# EAGLE library part ST2378E_FC (library ST2378E)
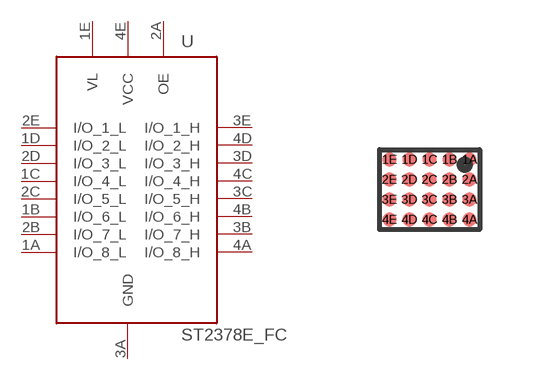
[diagram p0: symbol with the pads of FLIP-CHIP_20; footprint FLIP-CHIP_20]

Designator prefix -

## ST2378E_FC  [FLIP-CHIP_20]
1A  I/O_8_L
1B  I/O_6_L
1C  I/O_4_L
1D  I/O_2_L
1E  VL
2A  OE
2B  I/O_7_L
2C  I/O_5_L
2D  I/O_3_L
2E  I/O_1_L
3A  GND
3B  I/O_7_H
3C  I/O_5_H
3D  I/O_3_H
3E  I/O_1_H
4A  I/O_8_H
4B  I/O_6_H
4C  I/O_4_H
4D  I/O_2_H
4E  VCC

## Footprint FLIP-CHIP_20 (pad centres in mm)
smd 0.35 x 0.35: 1A 1.125,0.625; 1B 0.625,0.625; 1C 0.125,0.625; 1D -0.375,0.625; 1E -0.875,0.625; 2A 1.125,0.125; 2B 0.625,0.125; 2C 0.125,0.125; 2D -0.375,0.125; 2E -0.875,0.125; 3A 1.125,-0.375; 3B 0.625,-0.375; 3C 0.125,-0.375; 3D -0.375,-0.375; 3E -0.875,-0.375; 4A 1.125,-0.875; 4B 0.625,-0.875; 4C 0.125,-0.875; 4D -0.375,-0.875; 4E -0.875,-0.875